# Altium footprint library DIODES.PcbLib: 9 footprints
Each footprint in its own frame and in the unit in brackets; x right, y up, seen from the top. Pads: shape width x height; smd on the part's side, far side on the other; paste and mask are expansions set on the pad; w line width, h text height; cw(c..) or ccw(c..) is an arc to the next point about the centre after c.
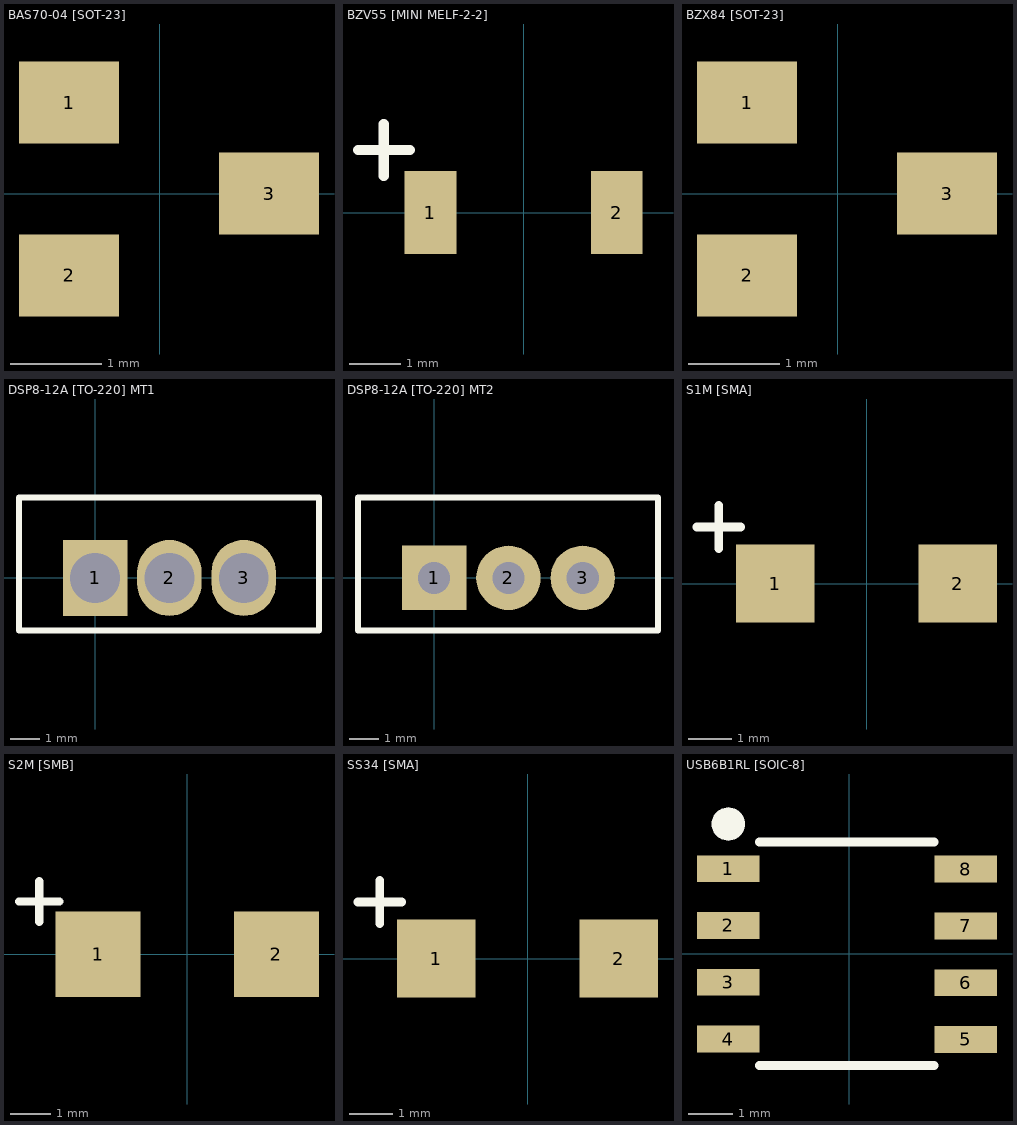
[diagram p0: the footprints below, top view; thin cyan lines are the x and y axes]

## BAS70-04 [SOT-23] [mm]
pads (3):
  rect 1.1x0.9 smd: 1(-1,1) 2(-1,-0.9) 3(1.2,0)
3D body "BAS70-04_SOT_23.STEP": height 1.1, standoff 0, extent -1.25,-1.45 1.25,1.45

## BZV55 [MINI MELF-2-2] [mm]
pads (2):
  rect 1x1.6 smd: 1(-1.8,0) 2(1.8,0)
Top Overlay:
  lines w0.2: -3.2,1.21 -2.2,1.21 ; -2.7,0.71 -2.7,1.71
3D body "BZV55_MINI_MELF_2_2.STEP": height 1.59, standoff 0.01, extent -1.75,-0.8 1.75,0.8

## BZX84 [SOT-23] [mm]
pads (3):
  rect 1.1x0.9 smd: 1(-1,1) 2(-1,-0.9) 3(1.2,0)
3D body "BZX84_SOT_23.STEP": height 1.2, standoff 0, extent -1.2,-1.46 1.2,1.46

## DSP8-12A [TO-220] MT1 [mm] "Mounting type 1"
pads (3):
  rect 2.2x2.6 hole 1.7: 1(0,0)
  oval 2.2x2.6 hole 1.7: 2(2.54,0) 3(5.08,0)
Top Overlay:
  lines w0.2: -2.6,-1.8 7.65,-1.8 7.65,2.75 -2.6,2.75 -2.6,-1.8
3D body "DSP8-12A_TO_220.STEP": height 16.84, standoff -13.13, extent -2.602,-1.803 7.682,2.768

## DSP8-12A [TO-220] MT2 [mm] "Mounting type 2"
pads (3):
  rect 2.2x2.2 hole 1.1: 1(0,0)
  round 2.2 hole 1.1: 2(2.54,0) 3(5.08,0)
Top Overlay:
  lines w0.2: -2.6,-1.8 7.65,-1.8 7.65,2.75 -2.6,2.75 -2.6,-1.8
3D body "DSP8-12A_TO_220.STEP": height 21.84, standoff -8.13, extent -2.602,-1.803 7.682,2.768

## S1M [SMA] [mm]
pads (2):
  rect 1.8x1.8 smd: 1(-2.1,0) 2(2.1,0)
Top Overlay:
  lines w0.2: -3.9,1.3 -2.9,1.3 ; -3.4,0.8 -3.4,1.8
3D body "S1M_SMA.STEP": height 2.5, standoff 0, extent -2.57,-1.28 2.57,1.28

## S2M [SMB] [mm]
pads (2):
  rect 2.1x2.1 smd: 1(-2.2,0) 2(2.2,0)
Top Overlay:
  lines w0.2: -4.15,1.3 -3.15,1.3 ; -3.65,0.8 -3.65,1.8
3D body "S2M_SMB.STEP": height 2.65, standoff 0, extent -2.72,-1.813 2.62,1.813

## SS34 [SMA] [mm]
pads (2):
  rect 1.8x1.8 smd: 1(-2.1,0) 2(2.1,0)
Top Overlay:
  lines w0.2: -3.9,1.3 -2.9,1.3 ; -3.4,0.8 -3.4,1.8
3D body "SS34_SMA.STEP": height 1, standoff 0, extent -2.6,-1.299 2.6,1.3

## USB6B1RL [SOIC-8] [mm]
pads (9):
  rect 1.4x0.6 smd: 1(-2.7,1.9) 2(-2.7,0.63) 3(-2.7,-0.64) 4(-2.7,-1.91) 5(2.61,-1.92) 6(2.61,-0.65) 7(2.61,0.62) 8(2.61,1.89)
  round 0.75 on Top Overlay: ""(-2.7,2.9)
Top Overlay:
  lines w0.2: -2,-2.5 1.9,-2.5 ; -2,2.5 1.9,2.5
3D body "USB6B1RL_SOIC_8.STEP": height 1.75, standoff 0, extent -3,-2.45 3,2.45